# Altium footprint library PcbLib1.PcbLib: 17 footprints (part 2 of 2)
Each footprint in its own frame and in the unit in brackets; x right, y up, seen from the top. Pads: shape width x height; smd on the part's side, far side on the other; paste and mask are expansions set on the pad; w line width, h text height; cw(c..) or ccw(c..) is an arc to the next point about the centre after c.
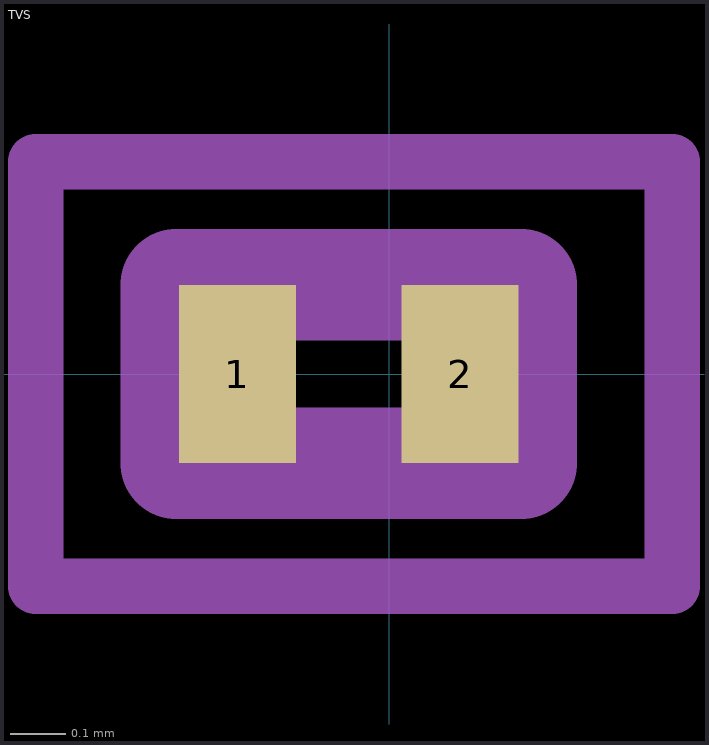
[diagram p1: the footprint, top view; thin cyan lines are the x and y axes]

## TVS [mm]
pads (2):
  rect 0.21x0.32 smd: 1(-0.273,0) 2(0.127,0)
Mechanical 13:
  lines w0.2: -0.383,-0.16 0.237,-0.16 0.237,0.16 -0.383,0.16 -0.383,-0.16
Mechanical 15:
  lines w0.1: -0.635,-0.381 0.508,-0.381 0.508,0.381 -0.635,0.381 -0.635,-0.381
3D body "DF2B26M4SL,L3F.stp": height 0.43, standoff 0, extent -0.383,-0.16 0.237,0.16